# Altium schematic symbol library ADS1232.Schlib: 1 symbol
Pins are listed as number, name and electrical type; pins without a type are passive.

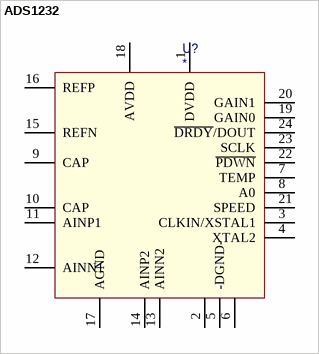
[diagram p0: symbol ADS1232]

## ADS1232
designator U?
pins: 1 DVDD, 2 DGND, 3 CLKIN/XSTAL1, 4 XTAL2, 5 -DGND-, 6 DGND, 7 TEMP, 8 A0, 9 CAP (power), 10 CAP, 11 AINP1, 12 AINN1, 13 AINN2, 14 AINP2, 15 REFN, 16 REFP (power), 17 AGND, 18 AVDD (power), 19 GAIN0, 20 GAIN1, 21 SPEED, 22 ~{PDWN}, 23 SCLK, 24 ~{DRDY}/DOUT